# Altium footprint library Petter_lib.PcbLib: 6 footprints
Each footprint in its own frame and in the unit in brackets; x right, y up, seen from the top. Pads: shape width x height; smd on the part's side, far side on the other; paste and mask are expansions set on the pad; w line width, h text height; cw(c..) or ccw(c..) is an arc to the next point about the centre after c.
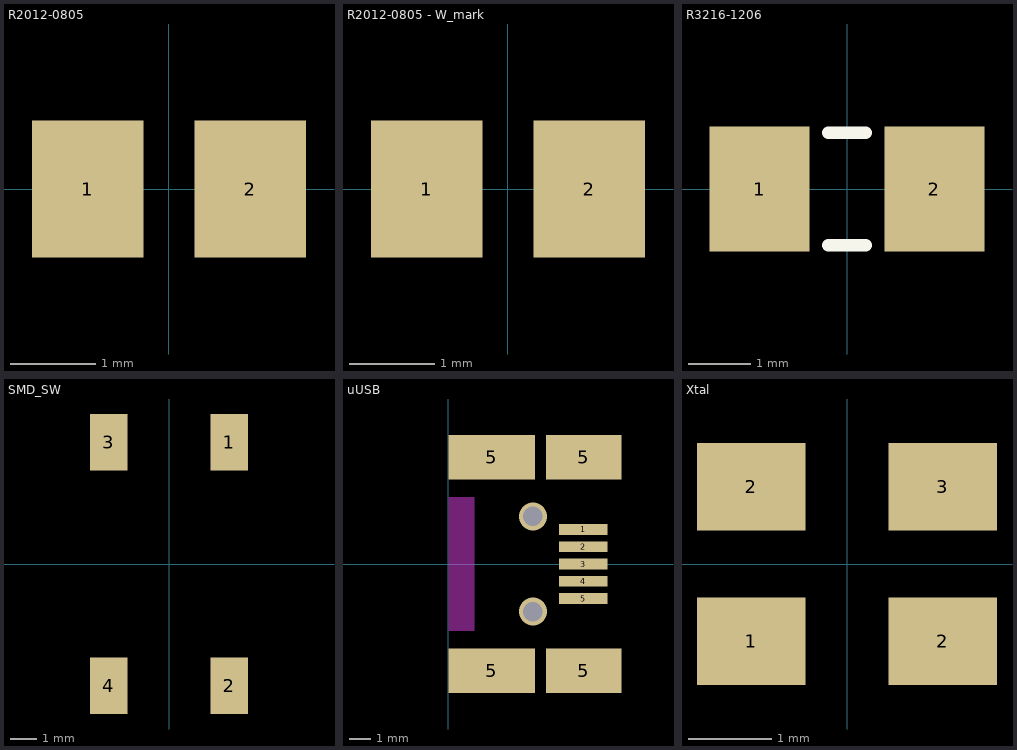
[diagram p0: the footprints below, top view; thin cyan lines are the x and y axes]

## R2012-0805 [mm] "SMD 2012-0805"
height 1.45
pads (2):
  rect 1.3x1.6 smd: 1(-0.95,0) 2(0.95,0)
3D body: height 1.45, standoff 0, extent -1.702,-0.902 1.702,0.902

## R2012-0805 - W_mark [mm] "SMD 2012-0805 polarity mark"
height 1.45
pads (2):
  rect 1.3x1.6 smd: 1(-0.95,0) 2(0.95,0)
Top Overlay:
  text "." at -2,-1.2 h1
3D body: height 1.45, standoff 0, extent -1.702,-0.902 1.702,0.902

## R3216-1206 [mm] "SMD 3216 - 1206"
height 1.85
pads (2):
  rect 1.6x2 smd: 1(-1.4,0) 2(1.4,0)
Top Overlay:
  lines w0.2: -0.3,-0.9 0.3,-0.9 ; -0.3,0.9 0.3,0.9
3D body: height 1.85, standoff 0, extent -2.302,-1.102 2.302,1.102

## SMD_SW [mm]
height 5
pads (4):
  rect 1.4x2.1 smd: 1(2.25,4.55) 2(2.25,-4.55) 3(-2.25,4.55) 4(-2.25,-4.55)
3D body: height 5, standoff 0, extent -3.052,-5.702 3.052,5.702

## uUSB [mm]
height 7
pads (10):
  rect 2.25x0.5 smd: 1(6.225,1.6) 2(6.225,0.8) 3(6.225,0) 4(6.225,-0.8) 5(6.225,-1.6)
  rect 4x2.05 smd: 5(2,-4.925) 5(2,4.925)
  rect 3.5x2.05 smd: 5(6.25,-4.925) 5(6.25,4.925)
  rect 1.2x6.2 on Keep-Out: ""(0.6,0)
via 3.9,-2.2 diameter 1.3 hole 0.9
via 3.9,2.2 diameter 1.3 hole 0.9
3D body: height 7, standoff 0, extent -0.102,-6.052 8.102,6.052

## Xtal [mm] "Xtal footprint"
height 3
pads (4):
  rect 1.3x1.05 smd: 1(-1.15,-0.925) 2(-1.15,0.925) 2(1.15,-0.925) 3(1.15,0.925)
Top Overlay:
  text "." at -2.3,-1.9 h1
3D body: height 3, standoff 0, extent -1.902,-1.552 1.902,1.552